# EAGLE library part RJ45-6PIN (library ece3724)
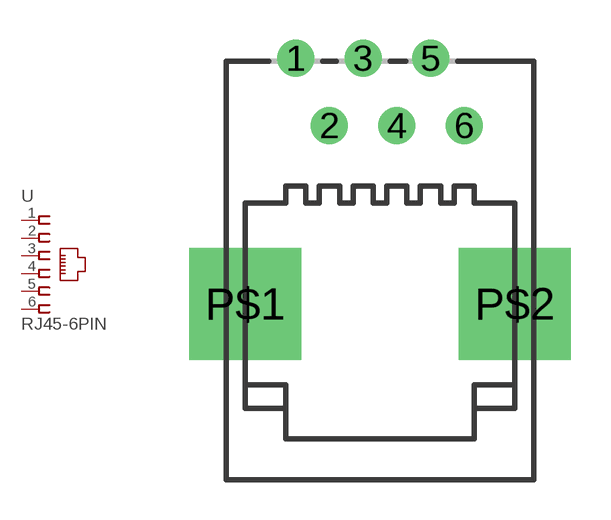
[diagram p6: symbol with the pads of RJ45_6PIN; footprint RJ45_6PIN]

Designator prefix -

## RJ45-6PIN  [RJ45_6PIN]
1  1
2  2
3  3
4  4
5  5
6  6

## Footprint RJ45_6PIN (pad centres in mm)
drill 0.889 round: 1 -3.175,10.541; 2 -1.905,8.001; 3 -0.635,10.541; 4 0.635,8.001; 5 1.905,10.541; 6 3.175,8.001
drill 3.2 square: P$1 -5.08,1.27; P$2 5.08,1.27